# Altium schematic symbol library Misc$.SchLib: 68 symbols
Pins are listed as number, name and electrical type; pins without a type are passive.

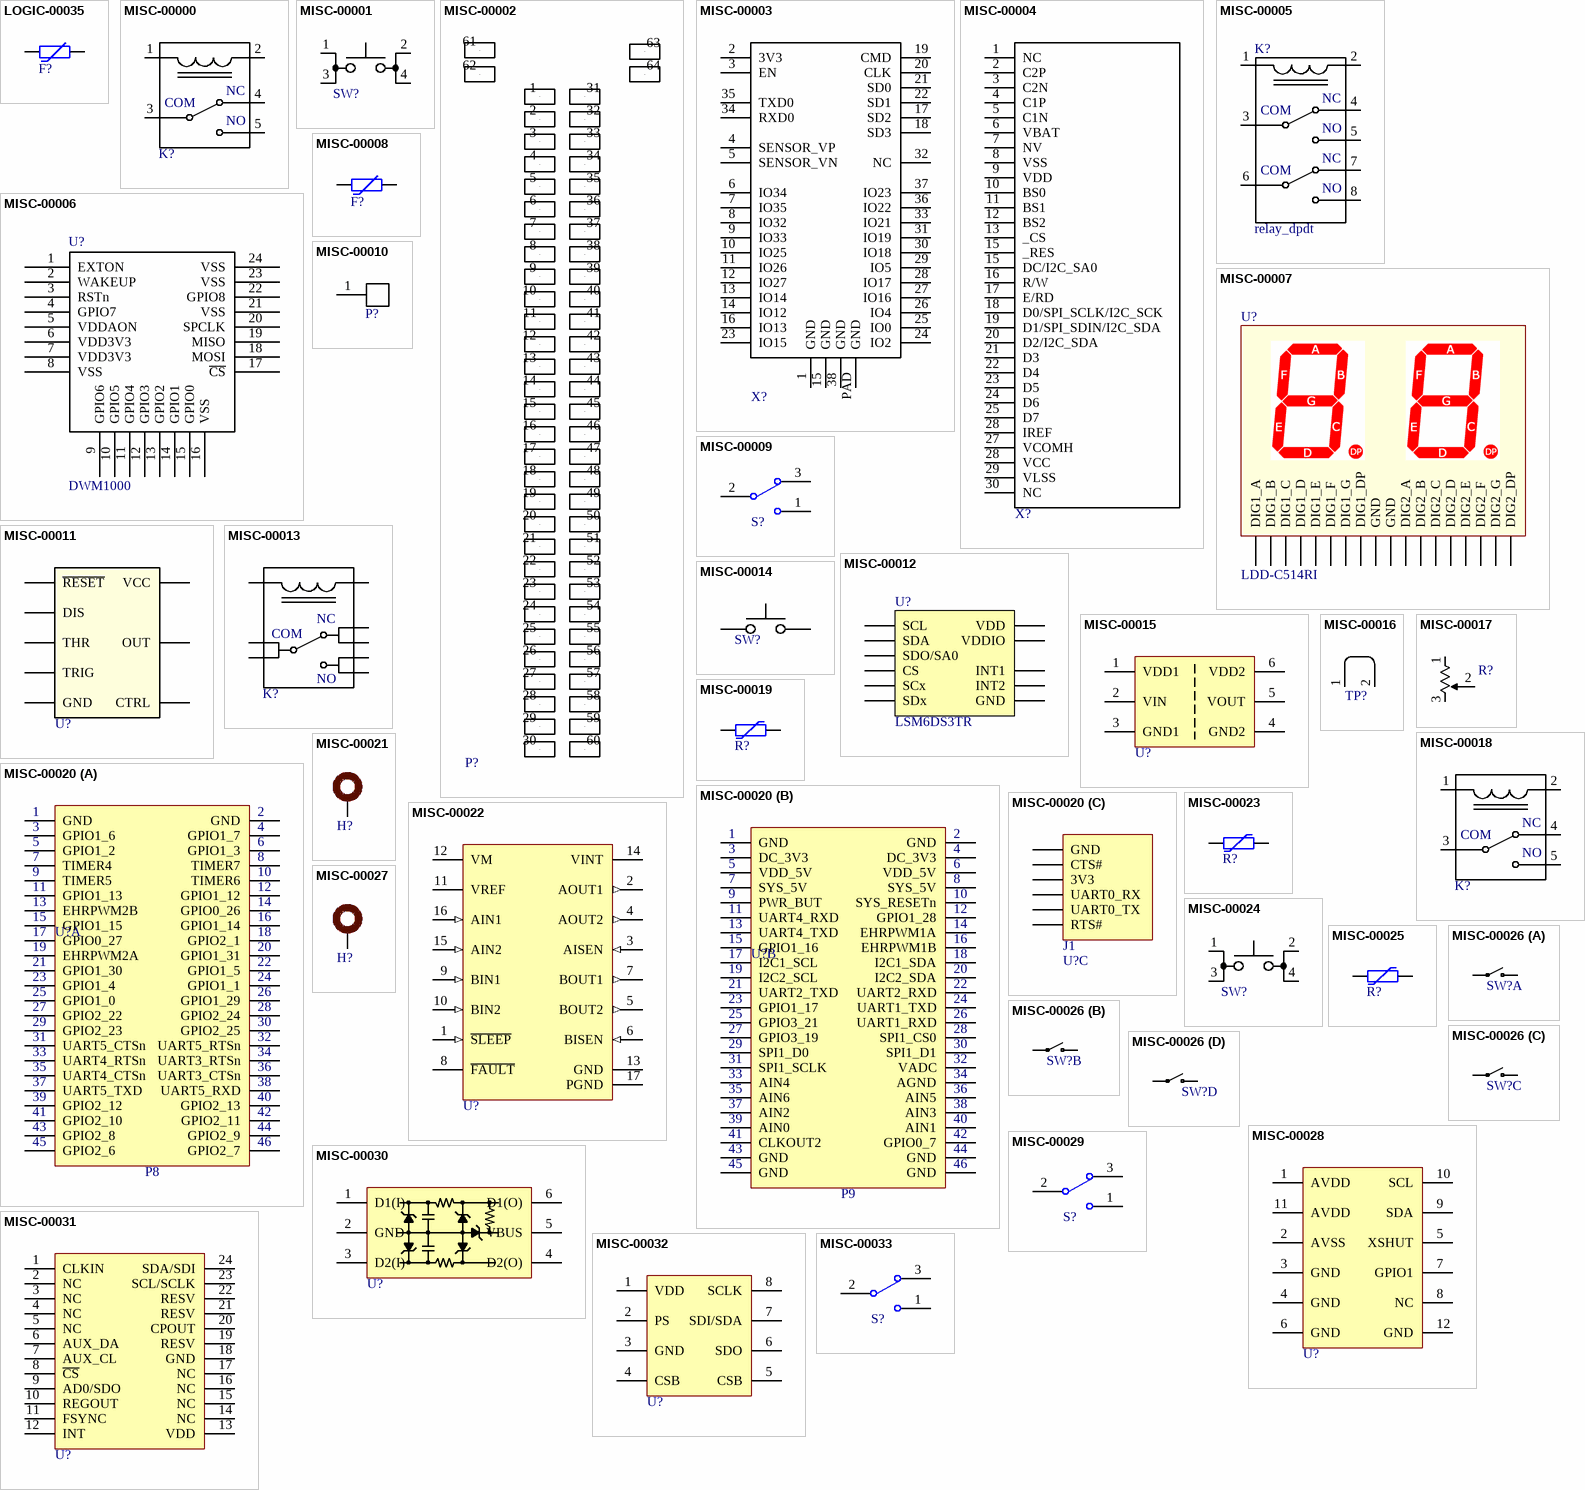
[diagram p0: symbols LOGIC-00035 to MISC-00033]

## LOGIC-00035
designator F?, comment PTC_0  (value not drawn)
PTC Fuse (Polyfuse), 16V 750mA Hold, 1.5A Trip, 200ms; Part Number: LOGIC-00035; Manufacturer: Bel Fuse Inc.; Manufacturer PN: 0ZCG0075FF2C; Cost: 0.13
footprint chip_1812
pins: 1, 2

## MISC-00000
designator K?, comment relay_spdt  (value not drawn)
Relay 12V, 40A; Part Number: MISC-00000; Manufacturer: Panasonic; Manufacturer PN: CB1-P-12V
footprint RELAY-PAN-CB
pins: 1, 2, 3 COM, 4 NC, 5 NO

## MISC-00001
designator SW?, comment SW_1P1T_0  (value not drawn)
Switch 1P1T, KS E-Switch, Circular; Part Number: MISC-00001; Manufacturer PN: KS-01Q-01; Manufacturer: E-Switch
footprint KS_SW_0
pins: 1, 2, 3, 4

## MISC-00002
designator P?, comment breadboard_30  (value not drawn)
Breadboard, 2x30; Part Number: MISC-00002
footprint breadboard_30
pins: 1 L1, 2 L2, 3 L3, 4 L4, 5 L5, 6 L6, 7 L7, 8 L8, 9 L9, 10 L10, 11 L11, 12 L12, 13 L13, 14 L14, 15 L15, 16 L16, 17 L17, 18 L18, 19 L19, 20 L20, 21 L21, 22 L22, 23 L23, 24 L24, 25 L25, 26 L26, 27 L27, 28 L28, 29 L29, 30 L30, 31 R1, 32 R2, 33 R3, 34 R4, 35 R5, 36 R6, 37 R7, 38 R8, 39 R9, 40 R10, 41 R11, 42 R12, 43 R13, 44 R14, 45 R15, 46 R16, 47 R17, 48 R18, 49 R19, 50 R20, 51 R21, 52 R22, 53 R23, 54 R24, 55 R25, 56 R26, 57 R27, 58 R28, 59 R29, 60 R30, 61 Rial1, 62 Rail2, 63 Rail3, 64 Rail4

## MISC-00003
designator X?, comment ESP32_WROOM  (value not drawn)
Part Number: MISC-00003; Manufacturer: Espressif; Manufacturer PN: ESP32_WROOM
footprint ESP32_WROOM
pins: 1 GND, 2 3V3, 3 EN, 4 SENSOR_VP, 5 SENSOR_VN, 6 IO34, 7 IO35, 8 IO32, 9 IO33, 10 IO25, 11 IO26, 12 IO27, 13 IO14, 14 IO12, 15 GND, 16 IO13, 17 SD2, 18 SD3, 19 CMD, 20 CLK, 21 SD0, 22 SD1, 23 IO15, 24 IO2, 25 IO0, 26 IO4, 27 IO16, 28 IO17, 29 IO5, 30 IO18, 31 IO19, 32 NC, 33 IO21, 34 RXD0, 35 TXD0, 36 IO22, 37 IO23, 38 GND, PAD GND

## MISC-00004
designator X?, comment UG-2864HSWEG01  (value not drawn)
0.96" OLED, 128x64 px, UG-2864HSWEG01; Part Number: MISC-00004; Manufacturer: N/A; Manufacturer PN: UG-2864HSWEG01
footprint UG-2864HSWEG01
pins: 1 NC, 2 C2P, 3 C2N, 4 C1P, 5 C1N, 6 VBAT, 7 NV, 8 VSS, 9 VDD, 10 BS0, 11 BS1, 12 BS2, 13 _CS, 15 _RES, 15 DC/I2C_SA0, 16 R/W, 17 E/RD, 18 D0/SPI_SCLK/I2C_SCK, 19 D1/SPI_SDIN/I2C_SDA, 20 D2/I2C_SDA, 21 D3, 22 D4, 23 D5, 24 D6, 25 D7, 27 VCOMH, 28 IREF, 28 VCC, 29 VLSS, 30 NC

## MISC-00005
designator K?, comment relay_dpdt
Relay 24V, 8A, DPDT; Part Number: MISC-00005; Manufacturer: TE Connectivity; Manufacturer PN: RTE24024; Cost: 3.12; Weight: 13
footprint RELAY_SHRACK_RT2
pins: 1, 2, 3 COM, 4 NC, 5 NO, 6 COM, 7 NC, 8 NO

## MISC-00006
designator U?, comment DWM1000
Ultra Wide-Band transceiver module; Part Number: MISC-00006; Manufacturer: Decawave; Manufacturer PN: DWM1000; Cost: 26.62
footprint DWM1000_0
pins: 1 EXTON, 2 WAKEUP, 3 RSTn, 4 GPIO7, 5 VDDAON, 6 VDD3V3, 7 VDD3V3, 8 VSS, 9 GPIO6, 10 GPIO5, 11 GPIO4, 12 GPIO3, 13 GPIO2, 14 GPIO1, 15 GPIO0, 16 VSS, 17 ~{CS}, 18 MOSI, 19 MISO, 20 SPCLK, 21 VSS, 22 GPIO8, 23 VSS, 24 VSS

## MISC-00007
designator U?, comment LDD-C514RI
Dual 7-segment display, LED, common cathode; Part Number: MISC-00007; Manufacturer: Lumex Opto; Manufacturer PN: LDD-C514RI
footprint LDD-C514RI
pins: 1 DIG1_E, 2 DIG1_D, 3 DIG1_C, 4 DIG1_DP, 5 DIG2_E, 6 DIG2_D, 7 DIG2_G, 8 DIG2_C, 9 DIG2_DP, 10 DIG2_B, 11 DIG2_A, 12 DIG2_F, 13 GND, 14 GND, 15 DIG1_B, 16 DIG1_A, 17 DIG1_G, 18 DIG1_F

## MISC-00008
designator F?, comment PTC_0  (value not drawn)
PTC Resettable fuse, 6V, 500mA, 1206; Part Number: MISC-00008; Manufacturer: Eaton; Manufacturer PN: PTS12066V050; Cost: 0.3; Distributor Link: https://www.digikey.com/en/products/detail/eaton-electronics-division/PTS12066V050/2639136
footprint chip_1206
pins: 1, 2

## MISC-00009
designator S?, comment SW-SPDT  (value not drawn)
Switch, SPDT, Rocker, Thru-hole, Right-angle; Part Number: MISC-00009; Manufacturer: NKK Switches; Manufacturer PN: M2012TXW41-DA; Cost: 5.1; Weight: 6
footprint M2012TXG41-DC
pins: 1, 2, 3

## MISC-00010
designator P?, comment conn-1x1_0  (value not drawn)
Fuse Holder, Cartridge, 1/4" dia.; Part Number: MISC-00010; Manufacturer: Littelfuse; Manufacturer PN: 01220093Z; Cost: 0.76
footprint LITTELFUSE_122_FUSE_CLIP
pins: 1 P

## MISC-00011
designator U?, comment NE555  (value not drawn)
555 Timer, NE555DR, SO-8; Part Number: MISC-00011; Manufacturer: TI; Manufacturer PN: NE555DR; Cost: 0.48
footprint so-8
pins: 1 GND, 2 TRIG, 3 OUT, 4 ~{RESET}, 5 CTRL, 6 THR, 7 DIS, 8 VCC

## MISC-00012
designator U?, comment LSM6DS3TR
Accel & Gyro, 3-Axis, SPI/I2C; Part Number: MISC-00012; Manufacturer: STM; Manufacturer PN: LSM6DS3TR; Cost: 3
footprint LGA14
pins: 1 SDO/SA0, 2 SDx, 3 SCx, 4 INT1, 5 VDDIO (power), 6 GND (power), 7 GND hidden, 8 VDD (power), 9 INT2, 10 NC hidden, 11 NC hidden, 12 CS, 13 SCL, 14 SDA

## MISC-00013
designator K?, comment relay_G2RL-1-E  (value not drawn)
Relay, 12V, 16A; Part Number: MISC-00013; Manufacturer: Omron; Manufacturer PN: G2RL-1-E; Cost: 3.09
footprint RELAY_G2RL-1-E
pins: 1, 2, 3, 4, 5, 6, 7, 8
text: NC; COM; NO

## MISC-00014
designator SW?, comment SW_1P1T_1  (value not drawn)
Switch, SPST, Tactile, Right-Angle; Part Number: MISC-00014; Manufacturer: Uxcell; Manufacturer PN: US-SA-AJD-09203
footprint UXCELL_TACT_SWITCH
pins: 1, 2

## MISC-00015
designator U?, comment ADUM4120  (value not drawn)
Gate Driver, Isolated, GaN/SiC, 2.3A peak output; Part Number: MISC-00015; Manufacturer: Analog Devices; Manufacturer PN: ADUM4120-1BRIZ; Cost: 5.03
footprint SOW-6
pins: 1 VDD1, 2 VIN, 3 GND1, 4 GND2, 5 VOUT, 6 VDD2

## MISC-00016
designator TP?, comment TP_0  (value not drawn)
Test Point Jumper Link, 0.1" spacing; Part Number: MISC-00016
footprint TP_0
pins: 1, 2

## MISC-00017
designator R?, comment res_single_pot  (value not drawn)
Potentiometer, 10K, Thru-hole, Panel-mount; Part Number: MISC-00017; Manufacturer: TT Electronics; Manufacturer PN: P160KN-0QC15B10K
footprint POT_P160KN
pins: 1, 2, 3

## MISC-00018
designator K?, comment relay_spdt  (value not drawn)
Relay, 24V 10A SPDT; Part Number: MISC-00018; Manufacturer: Omron; Manufacturer PN: G5LE-14 DC24; Cost: 1.33
footprint OMRON_G5LE-14_DC24
pins: 1, 2, 3 COM, 4 NC, 5 NO

## MISC-00019
designator R?, comment MOV_0  (value not drawn)
MOV, 220V 2.5kA; Part Number: MISC-00019; Manufacturer: Bourns; Manufacturer PN: MOV-10D221K; Cost: 0.54
footprint BOURNS_MOV10D
pins: 1, 2

## MISC-00020
designator U?, comment BBB  (value not drawn)
Beaglebone Black; Part Number: MISC-00020; Manufacturer PN: BEAGLEBONE
footprint BEAGLEBONE
part A pins: 1 GND, 2 GND, 3 GPIO1_6, 4 GPIO1_7, 5 GPIO1_2, 6 GPIO1_3, 7 TIMER4, 8 TIMER7, 9 TIMER5, 10 TIMER6, 11 GPIO1_13, 12 GPIO1_12, 13 EHRPWM2B, 14 GPIO0_26, 15 GPIO1_15, 16 GPIO1_14, 17 GPIO0_27, 18 GPIO2_1, 19 EHRPWM2A, 20 GPIO1_31, 21 GPIO1_30, 22 GPIO1_5, 23 GPIO1_4, 24 GPIO1_1, 25 GPIO1_0, 26 GPIO1_29, 27 GPIO2_22, 28 GPIO2_24, 29 GPIO2_23, 30 GPIO2_25, 31 UART5_CTSn, 32 UART5_RTSn, 33 UART4_RTSn, 34 UART3_RTSn, 35 UART4_CTSn, 36 UART3_CTSn, 37 UART5_TXD, 38 UART5_RXD, 39 GPIO2_12, 40 GPIO2_13, 41 GPIO2_10, 42 GPIO2_11, 43 GPIO2_8, 44 GPIO2_9, 45 GPIO2_6, 46 GPIO2_7
part B pins: 47 GND, 48 GND, 49 DC_3V3, 50 DC_3V3, 51 VDD_5V, 52 VDD_5V, 53 SYS_5V, 54 SYS_5V, 55 PWR_BUT, 56 SYS_RESETn, 57 UART4_RXD, 58 GPIO1_28, 59 UART4_TXD, 60 EHRPWM1A, 61 GPIO1_16, 62 EHRPWM1B, 63 I2C1_SCL, 64 I2C1_SDA, 65 I2C2_SCL, 66 I2C2_SDA, 67 UART2_TXD, 68 UART2_RXD, 69 GPIO1_17, 70 UART1_TXD, 71 GPIO3_21, 72 UART1_RXD, 73 GPIO3_19, 74 SPI1_CS0, 75 SPI1_D0, 76 SPI1_D1, 77 SPI1_SCLK, 78 VADC, 79 AIN4, 80 AGND, 81 AIN6, 82 AIN5, 83 AIN2, 84 AIN3, 85 AIN0, 86 AIN1, 87 CLKOUT2, 88 GPIO0_7, 89 GND, 90 GND, 91 GND, 92 GND
part C pins: J1_1 GND, J1_2 CTS#, J1_3 3V3, J1_4 UART0_RX, J1_5 UART0_TX, J1_6 RTS#
part A text: P8
part B text: P9
part C text: J1

## MISC-00021
designator H?, comment mounting_hole_0  (value not drawn)
#6 Mounting Hole (3.75mm); Part Number: MISC-00021
footprint #6_MOUNTING_HOLE_0
pins: 0 A

## MISC-00022
designator U?, comment DRV8848  (value not drawn)
IC, Motor Driver, Quad Half-Bridge, 4-18V; Part Number: MISC-00022; Manufacturer: TI; Manufacturer PN: DRV8848PWPR; Cost: 1.53
footprint HTSSOP-16_0
pins: 1 ~{SLEEP} (in), 2 AOUT1 (out), 3 AISEN (in), 4 AOUT2 (out), 5 BOUT2 (out), 6 BISEN (in), 7 BOUT1 (out), 8 ~{FAULT} (oc), 9 BIN1 (in), 10 BIN2 (in), 11 VREF, 12 VM (power), 13 GND (power), 14 VINT, 15 AIN2 (in), 16 AIN1 (in), 17 PGND (power)

## MISC-00023
designator R?, comment MOV_0  (value not drawn)
MOV, 39V, 80A, 0805; Part Number: MISC-00023; Manufacturer: AVX; Manufacturer PN: VC080531C650DP; Cost: 0.48
footprint chip_0805
pins: 1, 2

## MISC-00024
designator SW?, comment SW_1P1T_0  (value not drawn)
Switch, SPST, Tactile, 32V 50mA; Part Number: MISC-00024; Manufacturer: C&K; Manufacturer PN: KMR621NG LFS; Cost: 0.33
footprint KMR6
pins: 1, 2, 3, 4

## MISC-00025
designator R?, comment MOV_0  (value not drawn)
MOV, 300V 2.5kA, 10mm disc; Part Number: MISC-00025; Manufacturer: Bourns; Manufacturer PN: MOV-10D301KTR; Cost: 0.49
footprint BOURNS-MOV-10D301K
pins: 1, 2

## MISC-00026
designator SW?, comment DIP_SW_4  (value not drawn)
DIP Switch, 4 Switches, SMD, 25mA, 24V; Part Number: MISC-00026; Manufacturer: Omron; Manufacturer PN: A6S-4104-H; Cost: 1.51
footprint A6S-4104-H
part A pins: 1, 8
part B pins: 2, 7
part C pins: 3, 6
part D pins: 4, 5

## MISC-00027
designator H?, comment mounting_hole_0  (value not drawn)
#8-32 Mounting Hole for Socket Head Cap Screw; Part Number: MISC-00027
footprint #8-32_SOCKET_HEAD
pins: 0 A

## MISC-00028
designator U?, comment VL53L0X  (value not drawn)
Time-of-Flight Ranging Sensor, VL53L0X; Part Number: MISC-00028; Manufacturer: ST; Manufacturer PN: VL53L0CXV0DH/1; Cost: 5.36
footprint VL53L0X
pins: 1 AVDD, 2 AVSS, 3 GND, 4 GND, 5 XSHUT, 6 GND, 7 GPIO1, 8 NC, 9 SDA, 10 SCL, 11 AVDD, 12 GND

## MISC-00029
designator S?, comment SW-SPDT  (value not drawn)
Switch, SPDT, Rocker, Thru-hole, Right-angle, 28V AC/DC; Part Number: MISC-00029; Manufacturer: NKK Switches; Manufacturer PN: GW12RHV; Cost: 2.85
footprint NKK_GW12RHV
pins: 1, 2, 3

## MISC-00030
designator U?, comment NUF2221W1  (value not drawn)
RC ESD Filter, 22 Ohm/42 pF; Part Number: MISC-00030; Manufacturer: ON Semi; Manufacturer PN: NUF2221W1T2G; Cost: 0.36
footprint sot-363
pins: 1 D1(I), 2 GND, 3 D2(I), 4 D2(O), 5 VBUS, 6 D1(O)

## MISC-00031
designator U?, comment MPU-6000  (value not drawn)
IMU Accel/Gyro, I2C/SPI, MPU-6000, 24-QFN; Part Number: MISC-00031; Manufacturer: TDK InvenSense; Manufacturer PN: MPU-6000; Cost: 12.44
footprint QFN-24-4x4
pins: 1 CLKIN, 2 NC, 3 NC, 4 NC, 5 NC, 6 AUX_DA, 7 AUX_CL, 8 ~{CS}, 9 AD0/SDO, 10 REGOUT, 11 FSYNC, 12 INT, 13 VDD, 14 NC, 15 NC, 16 NC, 17 NC, 18 GND, 19 RESV, 20 CPOUT, 21 RESV, 22 RESV, 23 SCL/SCLK, 24 SDA/SDI

## MISC-00032
designator U?, comment MS5611-01BA03  (value not drawn)
Barometric Pressure Sensor; Part Number: MISC-00032; Manufacturer: TE Connectivity Measurement Specialties; Manufacturer PN: MS561101BA03-50; Cost: 12.48
footprint LGA8
pins: 1 VDD, 2 PS, 3 GND, 4 CSB, 5 CSB, 6 SDO, 7 SDI/SDA, 8 SCLK

## MISC-00033
designator S?, comment SW-SPDT  (value not drawn)
Switch, SPDT, 120VAC/28VDC, 5A, Horizontal Slide Switch; Part Number: MISC-00033; Manufacturer: E-Switch; Manufacturer PN: 500SSP1S1M6QEA; Cost: 3.93
footprint E-Switch_500SSPyS1M6yEA
pins: 1, 2, 3

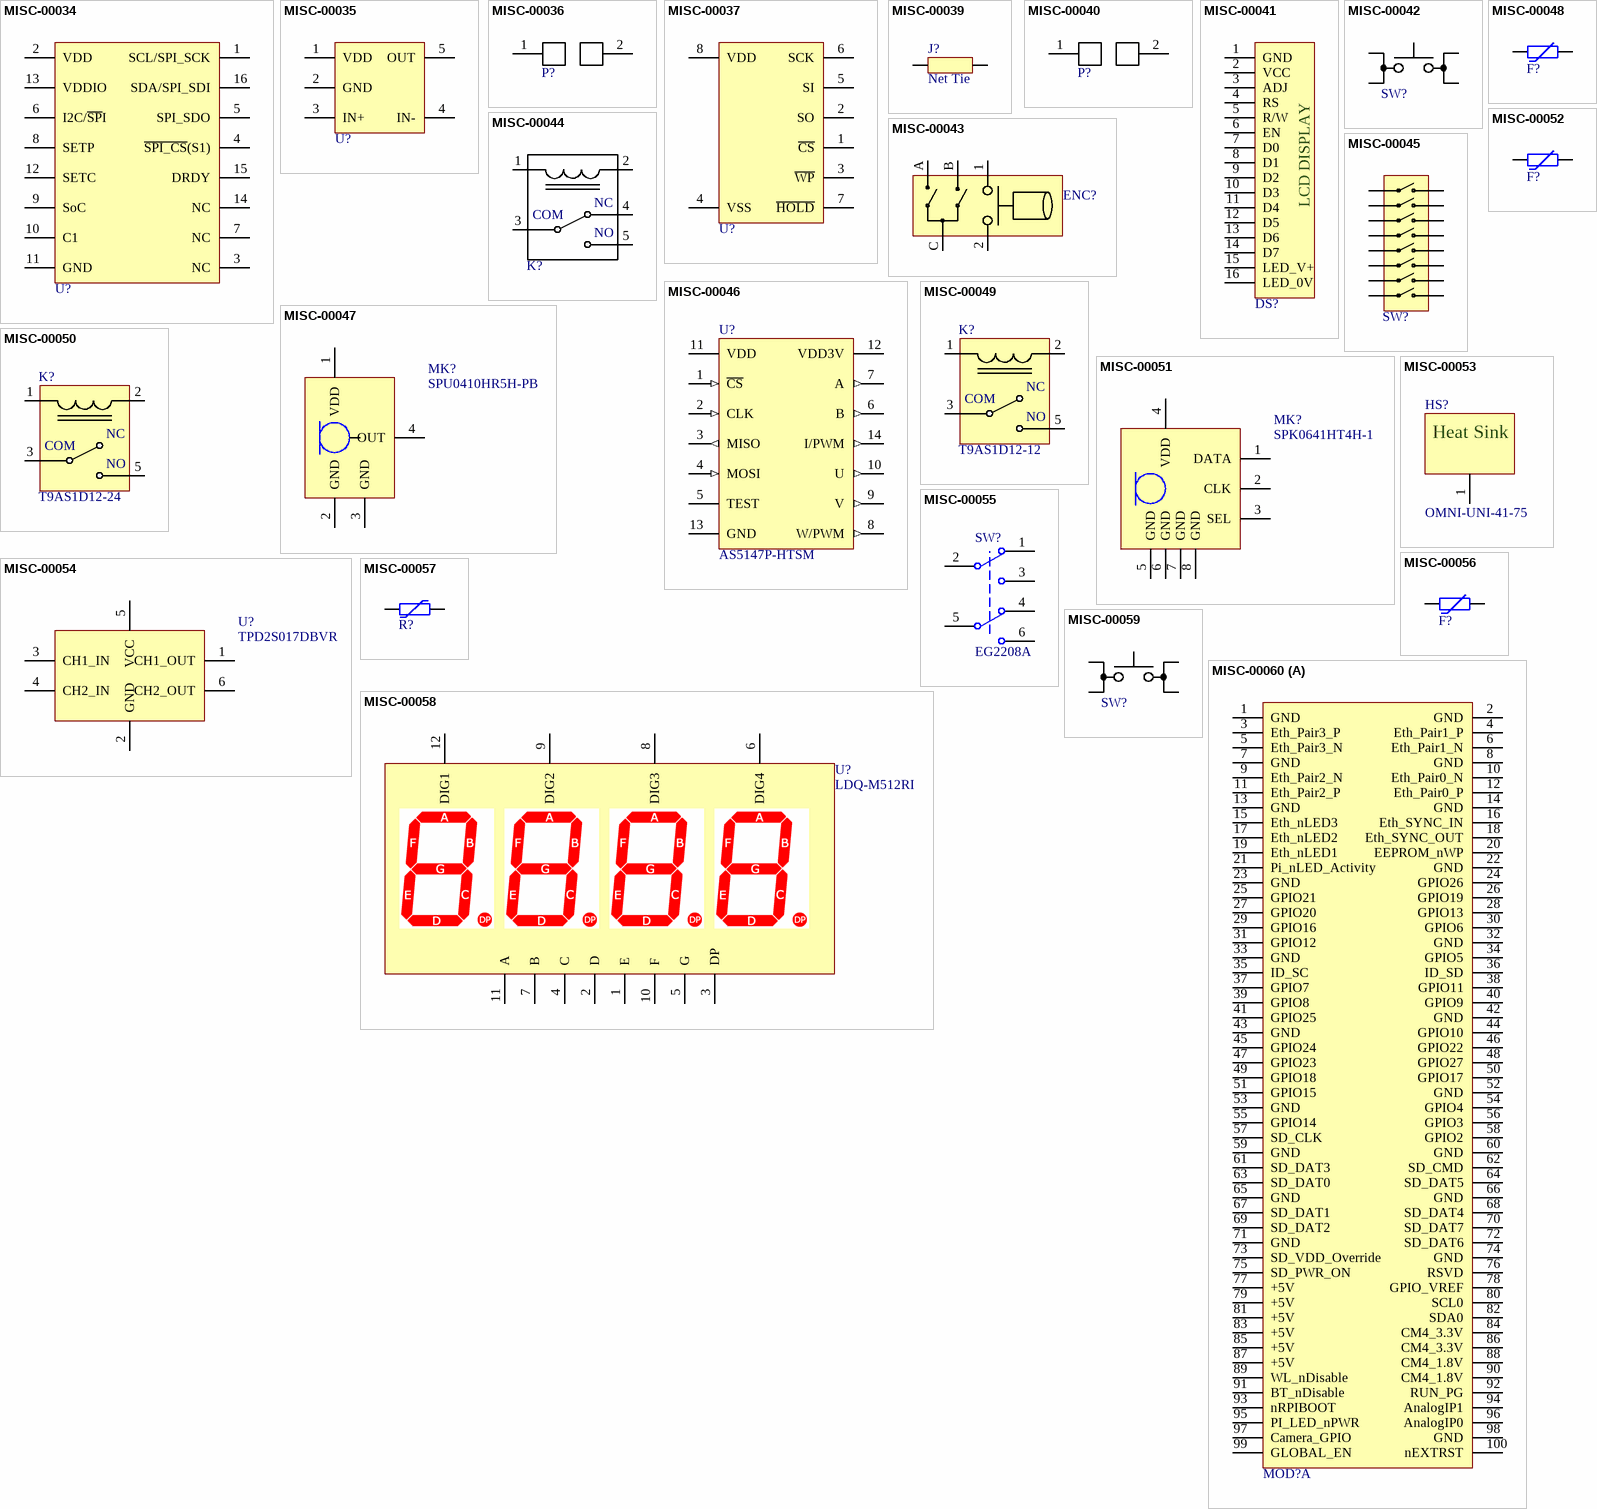
[diagram p1: symbols MISC-00034 to MISC-00060]

## MISC-00034
designator U?, comment HMC5983  (value not drawn)
IC, 3-Axis Digital Compass, I2C and SPI, HMC5983; Part Number: MISC-00034; Manufacturer: Honeywell; Manufacturer PN: HMC5983; Cost: 35
footprint LCC-16-3x3mm
pins: 1 SCL/SPI_SCK, 2 VDD, 3 NC, 4 ~{SPI_CS}(S1), 5 SPI_SDO, 6 I2C/~{SP}I, 7 NC, 8 SETP, 9 SoC, 10 C1, 11 GND, 12 SETC, 13 VDDIO, 14 NC, 15 DRDY, 16 SDA/SPI_SDI

## MISC-00035
designator U?, comment UCC2751x  (value not drawn)
IC, Gate Driver, Single Channel High-Speed, 4A Source and Sink; Part Number: MISC-00035; Manufacturer: TI; Manufacturer PN: UCC27517DBVR; Cost: 1.02
footprint sot-23-5
pins: 1 VDD, 2 GND, 3 IN+, 4 IN-, 5 OUT

## MISC-00036
designator P?, comment conn-fuse-holder_0  (value not drawn)
Fuse Holder, Cartridge, 5x20mm, 500V 10A; Part Number: MISC-00036; Manufacturer: Schurter; Manufacturer PN: 0031.8211; Cost: 0.91
footprint SCHURTER_0031-8211
pins: 1, 2

## MISC-00037
designator U?, comment FM25V01A  (value not drawn)
IC, FRAM 128K SPI 40MHZ 8-SOIC; Part Number: MISC-00037; Manufacturer: Cypress Semiconductor Corp.; Manufacturer PN: FM25V01A-G; Cost: 5.65
footprint SO-8_1
pins: 1 ~{CS}, 2 SO, 3 ~{WP}, 4 VSS, 5 SI, 6 SCK, 7 ~{HOLD}, 8 VDD

## MISC-00039
designator J?, comment Net Tie
Part Number: MISC-00039
footprint net_tie_0
pins: 1 NET1 (power), 2 NET2 (power)

## MISC-00040
designator P?, comment conn-fuse-holder_0  (value not drawn)
Fuse Holder, Cartridge, 5x20mm, 250V 20A; Part Number: MISC-00040; Manufacturer: Wurth; Manufacturer PN: 696103201002; Cost: 1.18
footprint WURTH_696103201002
pins: 1, 2

## MISC-00041
designator DS?, comment LCD_DISPLAY_0  (value not drawn)
LCD Display, 16-pin interface, 80x36mm, Hitachi standard driver; Part Number: MISC-00041; Manufacturer: Newhaven Display; Manufacturer PN: NHD-0216XZ-FSW-GBW; Cost: 11.63
footprint LCD_DISPLAY_0
pins: 1 GND (power), 2 VCC (power), 3 ADJ (power), 4 RS (power), 5 R/W (power), 6 EN (power), 7 D0 (power), 8 D1 (power), 9 D2 (power), 10 D3 (power), 11 D4 (power), 12 D5 (power), 13 D6 (power), 14 D7 (power), 15 LED_V+ (power), 16 LED_0V (power)
text: LCD DISPLAY

## MISC-00042
designator SW?, comment SW_1P1T_2  (value not drawn)
Switch, SPST-NO, Tactile, 6.3x6.0mm, SMD, 50mA 24VDC; Part Number: MISC-00042; Manufacturer: Omron; Manufacturer PN: B3FS-1012P; Cost: 0.71
footprint B3FS-1000
pins: 1, 2, 3, 4

## MISC-00043
designator ENC?, comment rotary_encoder_0  (value not drawn)
Rotary Encoder, Mechanical, 24PPR, THT; Part Number: MISC-00043; Manufacturer: Bourns; Manufacturer PN: PEC11R-4020F-S0024; Cost: 1.68
footprint BOURNS_PEC11R
pins: 1, 2, A (power), B (power), C (power)

## MISC-00044
designator K?, comment relay_spdt  (value not drawn)
Relay, SPDT, 24V 15mA Coil, 10A 277VAC; Part Number: MISC-00044; Manufacturer: TE Connectivity; Manufacturer PN: ORWH-SH-124D1F,000; Cost: 1.29
footprint TE_ORWH
pins: 1, 2, 3 COM, 4 NC, 5 NO

## MISC-00045
designator SW?, comment DIP_SW_8  (value not drawn)
DIP Switch, 8 Switches, SMD, 25mA, 24V; Part Number: MISC-00045; Manufacturer: Omron; Manufacturer PN: A6S-8104-H; Cost: 2.85
footprint A6S-8104-H
pins: 1, 2, 3, 4, 5, 6, 7, 8, 9, 10, 11, 12, 13, 14, 15, 16

## MISC-00046
designator U?, comment AS5147P-HTSM
IC, 14-bit On-Axis Magnetic Rotary Position Sensor, Incremental, TSSOP-14; Part Number: MISC-00046; Manufacturer: AMS; Manufacturer PN: AS5147P-HTSM; Cost: 12.23
footprint TSSOP-14_0
pins: 1 ~{CS} (in), 2 CLK (in), 3 MISO (out), 4 MOSI (in), 5 TEST, 6 B (out), 7 A (out), 8 W/PWM (out), 9 V (out), 10 U (out), 11 VDD (power), 12 VDD3V (power), 13 GND (power), 14 I/PWM (out)

## MISC-00047
designator MK?, comment SPU0410HR5H-PB
Microphone, MEMS, Buffered Output; Part Number: MISC-00047; Manufacturer: Knowles; Manufacturer PN: SPU0410HR5H-PB; Cost: 0.82
footprint KNOWLES_SPU
pins: 1 VDD, 2 GND, 3 GND, 4 OUT

## MISC-00048
designator F?, comment PTC_0  (value not drawn)
PTC Fuse (Polyfuse), 33V 1.5A Hold, 3A Trip, 2s; Part Number: MISC-00048; Manufacturer: Bel Fuse Inc.; Manufacturer PN: 0ZCF0150FF2C; Cost: 0.28
footprint chip_2920
pins: 1, 2

## MISC-00049
designator K?, comment T9AS1D12-12
Relay, 12V 30A, SPST, 1 Form A; Part Number: MISC-00049; Manufacturer: TE Connectivity; Manufacturer PN: T9AS1D12-12; Cost: 5.04
footprint TE_CONN_T9AS
pins: 1, 2, 3 COM, 5 NO
text: NC

## MISC-00050
designator K?, comment T9AS1D12-24
Relay, 24V Coil, 30A, SPST, 1 Form A; Part Number: MISC-00050; Manufacturer: TE Connectivity; Manufacturer PN: T9AS1D12-24; Cost: 5.04
footprint TE_CONN_T9AS
pins: 1, 2, 3 COM, 5 NO
text: NC

## MISC-00051
designator MK?, comment SPK0641HT4H-1
Microphone, MEMS, PDM Output; Part Number: MISC-00051; Manufacturer: Knowles; Manufacturer PN: SPK0641HT4H-1; Cost: 1.32
footprint KNOWLES_SPK0641HT4H-1
pins: 1 DATA, 2 CLK, 3 SEL, 4 VDD, 5 GND, 6 GND, 7 GND, 8 GND

## MISC-00052
designator F?, comment PTC_0  (value not drawn)
PTC Fuse (Polyfuse), 24V 500mA Hold, 1A Trip, 100ms; Part Number: MISC-00052; Manufacturer: Bel Fuse Inc.; Manufacturer PN: 0ZCJ0050AF2E; Cost: 0.21
footprint chip_1206
pins: 1, 2

## MISC-00053
designator HS?, comment OMNI-UNI-41-75
Heat Sink, Omni-Uni Series, 41x75mm; Part Number: MISC-00053; Manufacturer: Wakefield-Vette; Manufacturer PN: OMNI-UNI-41-75; Cost: 13.68
footprint OMNI-UNI-41-75
pins: 1 MNT
text: Heat Sink

## MISC-00054
designator U?, comment TPD2S017DBVR
IC, 2-Ch High-Speed ESD Protec Solution, Sot-23-6; Part Number: MISC-00054; Manufacturer: TI; Manufacturer PN: TPD2S017DBVR; Cost: 0.61
footprint sot-23-6
pins: 1 CH1_OUT, 2 GND, 3 CH1_IN, 4 CH2_IN, 5 VCC, 6 CH2_OUT

## MISC-00055
designator SW?, comment EG2208A
Slide-Switch, DPDT, 200mA 30V Thru-Hole; Part Number: MISC-00055; Manufacturer: E-Switch; Manufacturer PN: EG2208A; Cost: 0.81
footprint E-SWITCH_EG2208A
pins: 1, 2, 3, 4, 5, 6

## MISC-00056
designator F?, comment PTC_0  (value not drawn)
PTC Fuse (Polyfuse), 16V 1.5A Hold, 3A Trip, 300ms; Part Number: MISC-00056; Manufacturer: Littelfuse; Manufacturer PN: 1210L150/16WR; Cost: 1; Distributor Link: https://www.digikey.com/en/products/detail/littelfuse-inc/1210L150-16WR/3997172
footprint chip_1210
pins: 1, 2

## MISC-00057
designator R?, comment MOV_0  (value not drawn)
Varistor, Ceramic, 47V 300A 2J, 1210; Part Number: MISC-00057; Manufacturer: TDK; Manufacturer PN: B72530T0300K062; Cost: 0.65
footprint chip_1210
pins: 1, 2

## MISC-00058
designator U?, comment LDQ-M512RI
Quad 7-Segment LED Display Red; Part Number: MISC-00058; Manufacturer: Lumex Opto; Manufacturer PN: LDQ-M512RI; Cost: 6.32
footprint LDQ-M512RI
pins: 1 E, 2 D, 3 DP, 4 C, 5 G, 6 DIG4, 7 B, 8 DIG3, 9 DIG2, 10 F, 11 A, 12 DIG1

## MISC-00059
designator SW?, comment SW_1P1T_2  (value not drawn)
Switch, Tactile, SPST-NO, 50mA 24V, Vertical, Thru-Hole; Part Number: MISC-00059; Manufacturer: TE Connectivity; Manufacturer PN: 3-1825910-5; Cost: 0.13
footprint TE_CONN_3-1825910-5
pins: 1, 2, 3, 4

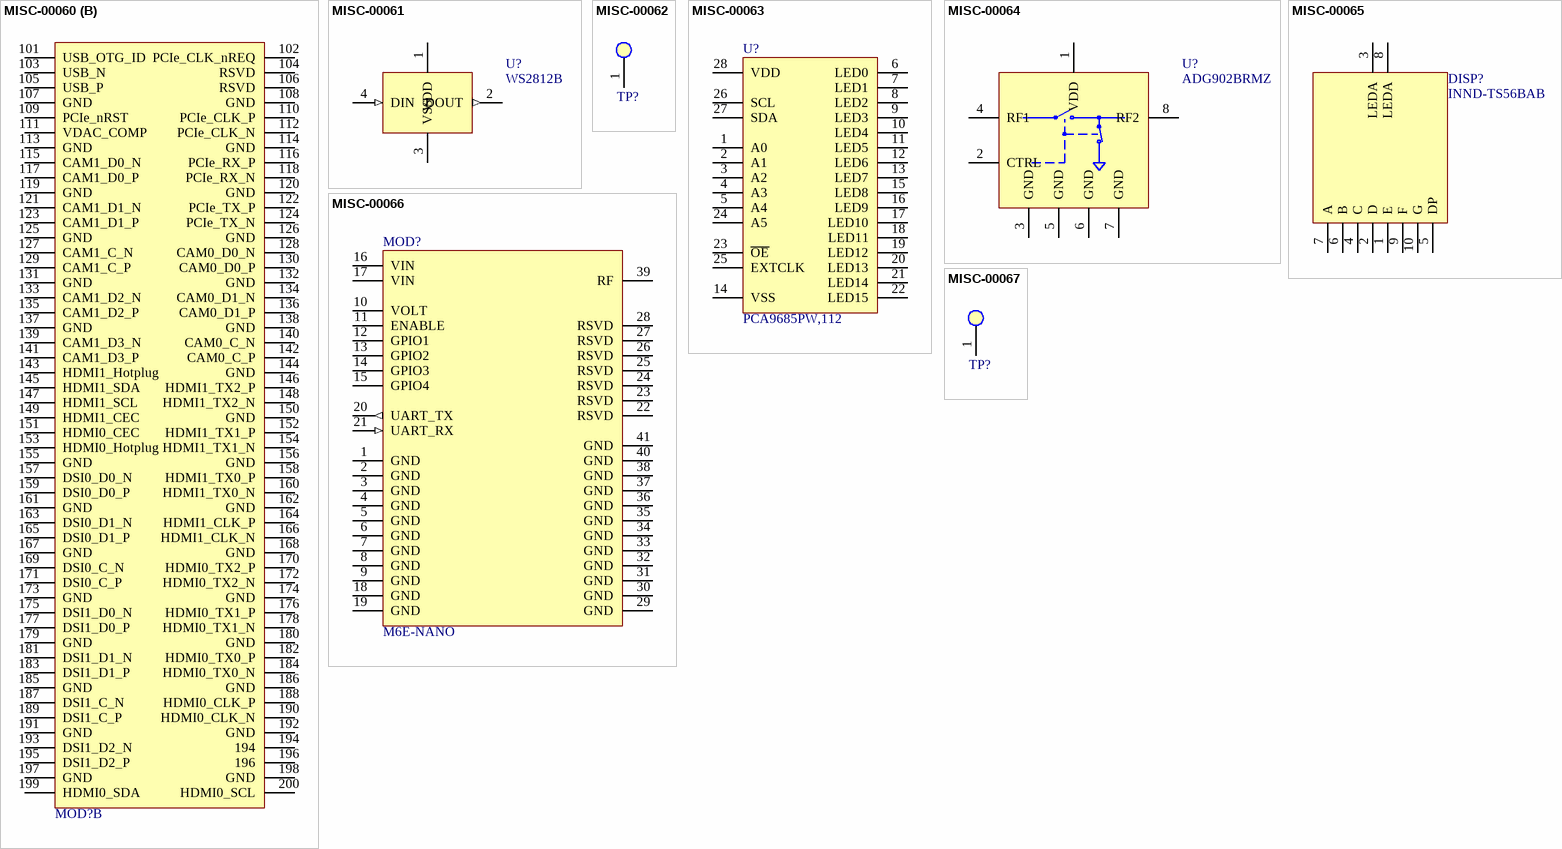
[diagram p2: symbols MISC-00060 to MISC-00067]

## MISC-00060
designator MOD?, comment CM4004032  (value not drawn)
Raspberry Pi 4 Compute Module, CM4, 4GB DDR4, 32 GB eMMC; Part Number: MISC-00060; Manufacturer: Raspberry Pi Foundation; Manufacturer PN: CM4004032; Cost: 60
footprint RPI_CM4_3MM
part A pins: 1 GND, 2 GND, 3 Eth_Pair3_P, 4 Eth_Pair1_P, 5 Eth_Pair3_N, 6 Eth_Pair1_N, 7 GND, 8 GND, 9 Eth_Pair2_N, 10 Eth_Pair0_N, 11 Eth_Pair2_P, 12 Eth_Pair0_P, 13 GND, 14 GND, 15 Eth_nLED3, 16 Eth_SYNC_IN, 17 Eth_nLED2, 18 Eth_SYNC_OUT, 19 Eth_nLED1, 20 EEPROM_nWP, 21 Pi_nLED_Activity, 22 GND, 23 GND, 24 GPIO26, 25 GPIO21, 26 GPIO19, 27 GPIO20, 28 GPIO13, 29 GPIO16, 30 GPIO6, 31 GPIO12, 32 GND, 33 GND, 34 GPIO5, 35 ID_SC, 36 ID_SD, 37 GPIO7, 38 GPIO11, 39 GPIO8, 40 GPIO9, 41 GPIO25, 42 GND, 43 GND, 44 GPIO10, 45 GPIO24, 46 GPIO22, 47 GPIO23, 48 GPIO27, 49 GPIO18, 50 GPIO17, 51 GPIO15, 52 GND, 53 GND, 54 GPIO4, 55 GPIO14, 56 GPIO3, 57 SD_CLK, 58 GPIO2, 59 GND, 60 GND, 61 SD_DAT3, 62 SD_CMD, 63 SD_DAT0, 64 SD_DAT5, 65 GND, 66 GND, 67 SD_DAT1, 68 SD_DAT4, 69 SD_DAT2, 70 SD_DAT7, 71 GND, 72 SD_DAT6, 73 SD_VDD_Override, 74 GND, 75 SD_PWR_ON, 76 RSVD, 77 +5V, 78 GPIO_VREF, 79 +5V, 80 SCL0, 81 +5V, 82 SDA0, 83 +5V, 84 CM4_3.3V, 85 +5V, 86 CM4_3.3V, 87 +5V, 88 CM4_1.8V, 89 WL_nDisable, 90 CM4_1.8V, 91 BT_nDisable, 92 RUN_PG, 93 nRPIBOOT, 94 AnalogIP1, 95 PI_LED_nPWR, 96 AnalogIP0, 97 Camera_GPIO, 98 GND, 99 GLOBAL_EN, 100 nEXTRST
part B pins: 101 USB_OTG_ID, 102 PCIe_CLK_nREQ, 103 USB_N, 104 RSVD, 105 USB_P, 106 RSVD, 107 GND, 108 GND, 109 PCIe_nRST, 110 PCIe_CLK_P, 111 VDAC_COMP, 112 PCIe_CLK_N, 113 GND, 114 GND, 115 CAM1_D0_N, 116 PCIe_RX_P, 117 CAM1_D0_P, 118 PCIe_RX_N, 119 GND, 120 GND, 121 CAM1_D1_N, 122 PCIe_TX_P, 123 CAM1_D1_P, 124 PCIe_TX_N, 125 GND, 126 GND, 127 CAM1_C_N, 128 CAM0_D0_N, 129 CAM1_C_P, 130 CAM0_D0_P, 131 GND, 132 GND, 133 CAM1_D2_N, 134 CAM0_D1_N, 135 CAM1_D2_P, 136 CAM0_D1_P, 137 GND, 138 GND, 139 CAM1_D3_N, 140 CAM0_C_N, 141 CAM1_D3_P, 142 CAM0_C_P, 143 HDMI1_Hotplug, 144 GND, 145 HDMI1_SDA, 146 HDMI1_TX2_P, 147 HDMI1_SCL, 148 HDMI1_TX2_N, 149 HDMI1_CEC, 150 GND, 151 HDMI0_CEC, 152 HDMI1_TX1_P, 153 HDMI0_Hotplug, 154 HDMI1_TX1_N, 155 GND, 156 GND, 157 DSI0_D0_N, 158 HDMI1_TX0_P, 159 DSI0_D0_P, 160 HDMI1_TX0_N, 161 GND, 162 GND, 163 DSI0_D1_N, 164 HDMI1_CLK_P, 165 DSI0_D1_P, 166 HDMI1_CLK_N, 167 GND, 168 GND, 169 DSI0_C_N, 170 HDMI0_TX2_P, 171 DSI0_C_P, 172 HDMI0_TX2_N, 173 GND, 174 GND, 175 DSI1_D0_N, 176 HDMI0_TX1_P, 177 DSI1_D0_P, 178 HDMI0_TX1_N, 179 GND, 180 GND, 181 DSI1_D1_N, 182 HDMI0_TX0_P, 183 DSI1_D1_P, 184 HDMI0_TX0_N, 185 GND, 186 GND, 187 DSI1_C_N, 188 HDMI0_CLK_P, 189 DSI1_C_P, 190 HDMI0_CLK_N, 191 GND, 192 GND, 193 DSI1_D2_N, 194, 195 DSI1_D2_P, 196, 197 GND, 198 GND, 199 HDMI0_SDA, 200 HDMI0_SCL

## MISC-00061
designator U?, comment WS2812B
WS2812B, Intelligent RGB LED Chip, 3.5~5.3V, 5x5mm (5050) SMD; Part Number: MISC-00061; Manufacturer: World Semi; Manufacturer PN: WS2812B; Cost: 0.1049
footprint 5050_4
pins: 1 VDD (power), 2 DOUT (out), 3 VSS (power), 4 DIN (in)

## MISC-00062
designator TP?, comment TP_1  (value not drawn)
Test Point, 1mm Drill, 2mm Pad; Part Number: MISC-00062; Cost: 0
footprint TP_1x2mm
pins: 1

## MISC-00063
designator U?, comment PCA9685PW,112
IC, 16-Channel PWM LED Controller, I2C, TSSOP28; Part Number: MISC-00063; Manufacturer: NXP; Manufacturer PN: PCA9685PW,112; Cost: 2.26; Distributor Link: https://www.digikey.com/en/products/detail/nxp-usa-inc/PCA9685PW112/2034324
footprint TSSOP-28_1
pins: 1 A0, 2 A1, 3 A2, 4 A3, 5 A4, 6 LED0, 7 LED1, 8 LED2, 9 LED3, 10 LED4, 11 LED5, 12 LED6, 13 LED7, 14 VSS, 15 LED8, 16 LED9, 17 LED10, 18 LED11, 19 LED12, 20 LED13, 21 LED14, 22 LED15, 23 ~{OE}, 24 A5, 25 EXTCLK, 26 SCL, 27 SDA, 28 VDD

## MISC-00064
designator U?, comment ADG902BRMZ
IC, RF Switch SPST 2.5GHz Reflective, 8-MSOP; Part Number: MISC-00064; Manufacturer: Analog Devices; Manufacturer PN: ADG902BRMZ; Cost: 3.39; Distributor Link: https://www.digikey.com/en/products/detail/analog-devices-inc/ADG902BRMZ/997618
footprint MSOP-8_0
pins: 1 VDD, 2 CTRL, 3 GND, 4 RF1, 5 GND, 6 GND, 7 GND, 8 RF2

## MISC-00065
designator DISP?, comment INND-TS56BAB
Display, 7-Segment with Decimal Point, Blue, Common Anode; Part Number: MISC-00065; Manufacturer: Inolux; Manufacturer PN: INND-TS56BAB; Cost: 1.63; Distributor Link: https://www.digikey.com/en/products/detail/inolux/INND-TS56BAB/7604992
footprint INOLUX_INND-TS56
pins: 1 E, 2 D, 3 LEDA, 4 C, 5 DP, 6 B, 7 A, 8 LEDA, 9 F, 10 G

## MISC-00066
designator MOD?, comment M6E-NANO
RFID Reader Module, 859~930MHz, M6E-NANO; Part Number: MISC-00066; Manufacturer: ThingMagic; Manufacturer PN: M6E-NANO; Cost: 134; Distributor Link: https://www.digikey.com/en/products/detail/thingmagic-a-jadak-brand/M6E-NANO/5251712?s=N4IgTCBcDaILYDYCmACAdgQzQexAXQF8g
footprint M6E-NANO
pins: 1 GND (power), 2 GND (power), 3 GND (power), 4 GND (power), 5 GND (power), 6 GND (power), 7 GND (power), 8 GND (power), 9 GND (power), 10 VOLT, 11 ENABLE, 12 GPIO1, 13 GPIO2, 14 GPIO3, 15 GPIO4, 16 VIN (power), 17 VIN (power), 18 GND (power), 19 GND (power), 20 UART_TX (out), 21 UART_RX (in), 22 RSVD, 23 RSVD, 24 RSVD, 25 RSVD, 26 RSVD, 27 RSVD, 28 RSVD, 29 GND (power), 30 GND (power), 31 GND (power), 32 GND (power), 33 GND (power), 34 GND (power), 35 GND (power), 36 GND (power), 37 GND (power), 38 GND (power), 39 RF, 40 GND (power), 41 GND (power)

## MISC-00067
designator TP?, comment TP_1  (value not drawn)
Test Point, Thru-Hole, 1mm Drill, 1.5mm Pad; Part Number: MISC-00067; Cost: 0
footprint TP_1x1.5MM
pins: 1